# EAGLE library part AAT3693 (library custom)
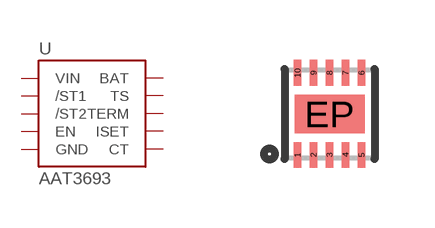
[diagram p91: symbol with the pads of 10-TDFN; footprint 10-TDFN]

Designator prefix U

## AAT3693  [10-TDFN]
1  VIN
2  /ST1
3  /ST2
4  EN
5  GND
6  CT
7  ISET
8  TERM
9  TS
10  BAT
EP  GND

## Footprint 10-TDFN (pad centres in mm)
smd 0.18 x 0.65: 1 -0.8,-1.025; 2 -0.4,-1.025; 3 0,-1.025; 4 0.4,-1.025; 5 0.8,-1.025; 6 0.8,1.025; 7 0.4,1.025; 8 0,1.025; 9 -0.4,1.025; 10 -0.8,1.025
smd 1.75 x 0.95: EP 0,0